# Altium footprint library M7.PcbLib: 1 footprints
Each footprint in its own frame and in the unit in brackets; x right, y up, seen from the top. Pads: shape width x height; smd on the part's side, far side on the other; paste and mask are expansions set on the pad; w line width, h text height; cw(c..) or ccw(c..) is an arc to the next point about the centre after c.
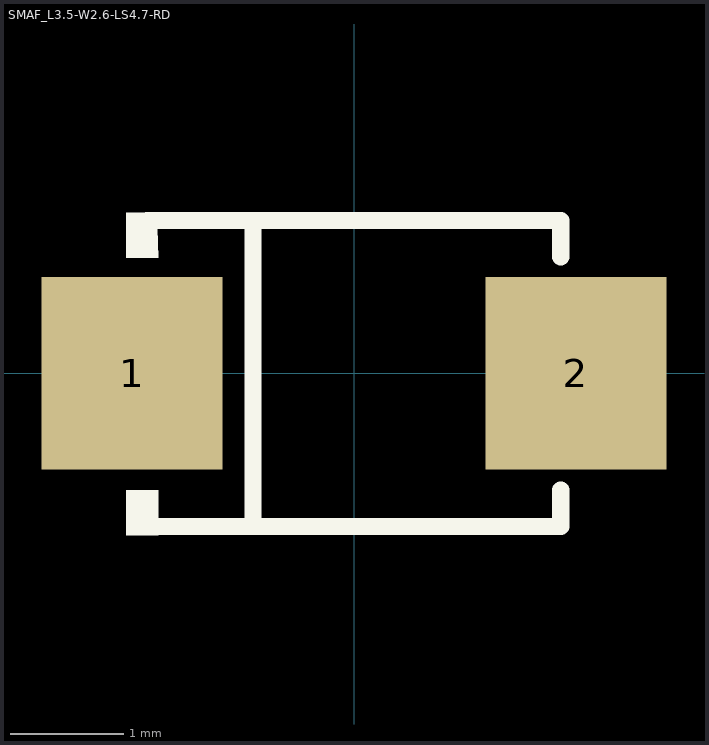
[diagram p0: the footprint, top view; thin cyan lines are the x and y axes]

## SMAF_L3.5-W2.6-LS4.7-RD [mm]
pads (2):
  rect 1.6x1.7 smd paste+0 mask+0.051: 1(-1.96,0) 2(1.96,0)
Top Overlay:
  region: -2.01,-1.43 -1.73,-1.43 -1.73,-1.03 -2.01,-1.03
  region: -1.74,1.42 -2.01,1.42 -2.01,1.02 -1.73,1.02
  lines w0.152: -1.826,-1.351 1.826,-1.351 1.826,-1.03 ; -1.826,1.351 1.826,1.351 1.826,1.03 ; -0.892,-1.351 -0.892,1.351
Mechanical 15:
  region: 1.654,-0.682 1.96,-0.682 1.96,0.542 1.654,0.542
  region: 2.419,0.083 2.419,-0.223 1.195,-0.223 1.195,0.083
  region: -2.632,0.183 -2.632,-0.123 -1.408,-0.123 -1.408,0.183
3D body "M7.STEP": height 2.4, standoff 0, extent -2.605,-1.302 2.605,1.302